# EAGLE library part PCM5102A (library mylib2)
PCM5102A
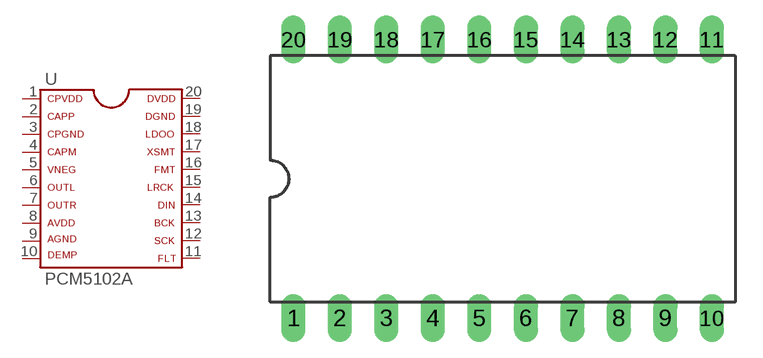
[diagram p5: symbol with the pads of DIL20-6; footprint DIL20-6]

Designator prefix -

## PCM5102A  [DIL20-6]
1  1  pas
2  2  pas
3  3  pas
4  4  pas
5  5  pas
6  6  pas
7  7  pas
8  8  pas
9  9  pas
10  10  pas
11  11  pas
12  12  pas
13  13  pas
14  14  pas
15  15  pas
16  16  pas
17  17  pas
18  18  pas
19  19  pas
20  20  pas

## Footprint DIL20-6 (pad centres in mm)
drill 0.813 long: 1 -11.43,-7.62; 2 -8.89,-7.62; 3 -6.35,-7.62; 4 -3.81,-7.62; 5 -1.27,-7.62; 6 1.27,-7.62; 7 3.81,-7.62; 8 6.35,-7.62; 9 8.89,-7.62; 10 11.43,-7.62; 11 11.43,7.62; 12 8.89,7.62; 13 6.35,7.62; 14 3.81,7.62; 15 1.27,7.62; 16 -1.27,7.62; 17 -3.81,7.62; 18 -6.35,7.62; 19 -8.89,7.62; 20 -11.43,7.62